# Altium schematic symbol library RcMPPT-SCC.SCHLIB: 58 symbols
Pins are listed as number, name and electrical type; pins without a type are passive.

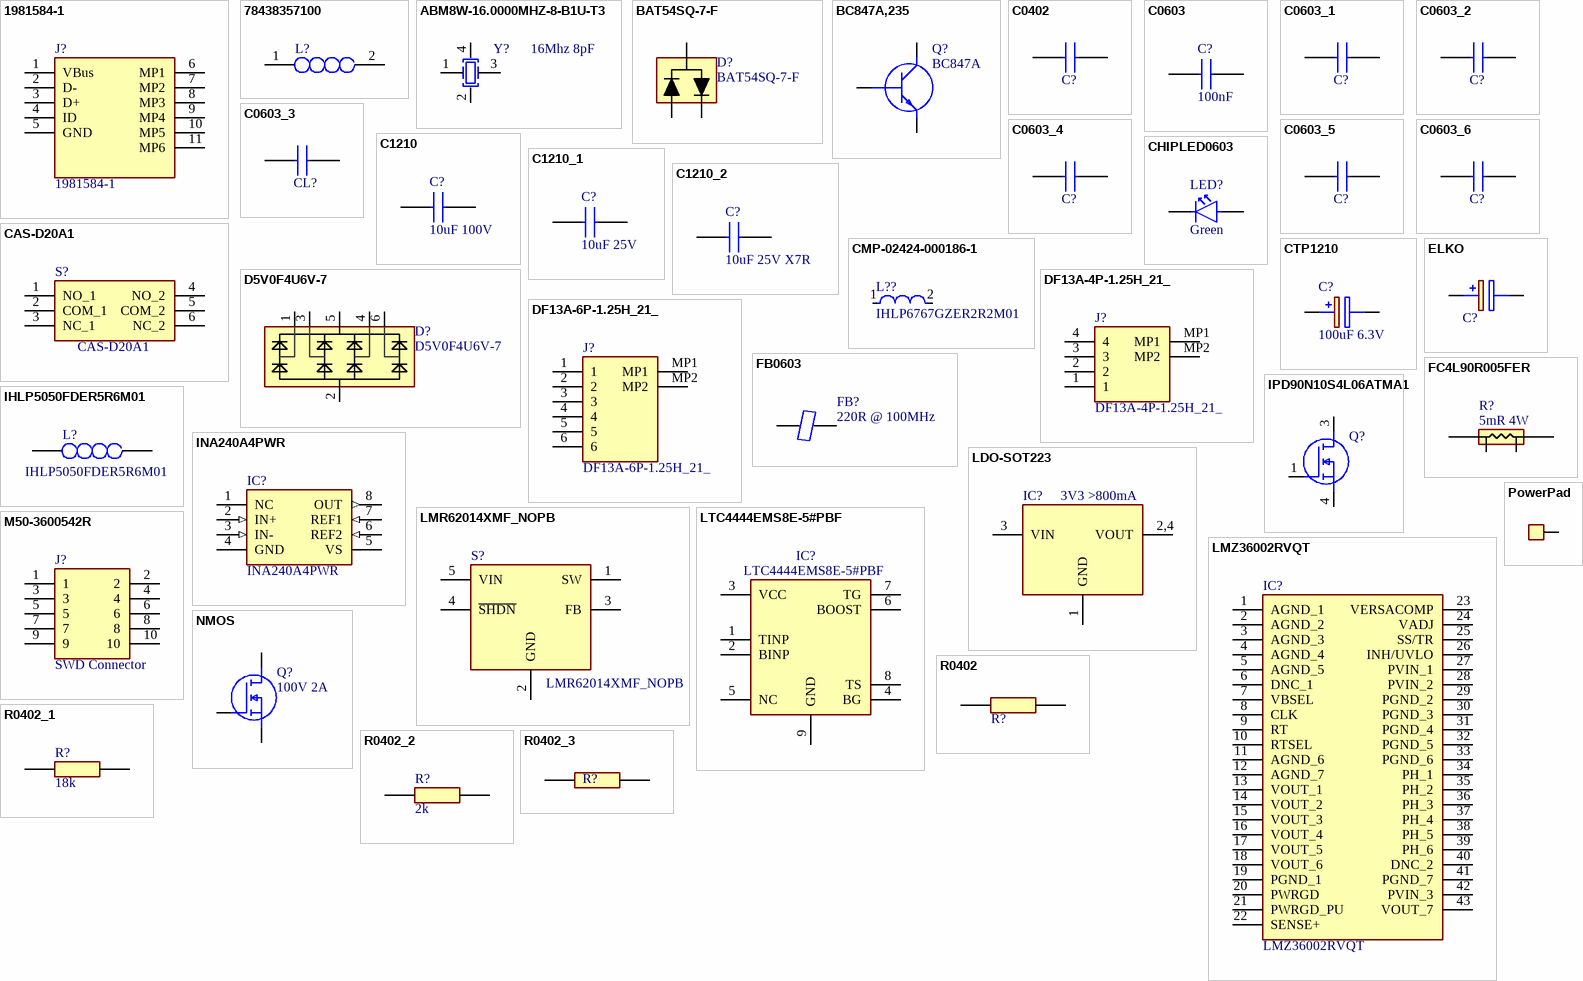
[diagram p0: symbols 1981584-1 to R0402_3]

## 1981584-1
designator J?
Connector; Manufacturer_Name: TE Connectivity; Datasheet Link: http://www.te.com/commerce/DocumentDelivery/DDEController?Action=showdoc&DocId=Customer+Drawing%7F1981584%7FD2%7Fpdf%7FEnglish%7FENG_CD_1981584_D2.pdf%7F1981584-1; Height: 3mm; Manufacturer_Part_Number: 1981584-1; Arrow Part Number: 1981584-1; Arrow Price/Stock: https://www.arrow.com/en/products/1981584-1/te-connectivity; Mouser Part Number: 571-1981584-1; Mouser Price/Stock: https://www.mouser.co.uk/ProductDetail/TE-Connectivity/1981584-1?qs=ozkTL%2FUej0TLYxjQLPnd2Q%3D%3D
footprint 19815841
pins: 1 VBus, 2 D-, 3 D+, 4 ID, 5 GND, 6 MP1, 7 MP2, 8 MP3, 9 MP4, 10 MP5, 11 MP6

## 78438357100
designator L?  (value not drawn)
Inductor; Manufacturer_Name: Wurth Elektronik; Datasheet Link: https://katalog.we-online.de/pbs/datasheet/78438357100.pdf; Height: 3.1mm; Manufacturer_Part_Number: 78438357100; Mouser Part Number: 710-78438357100; Mouser Price/Stock: https://www.mouser.co.uk/ProductDetail/Wurth-Elektronik/78438357100?qs=f9yNj16SXrI9saR5LXmRyQ%3D%3D
footprint INDPM4141X310N
pins: 1, 2

## ABM8W-16.0000MHZ-8-B1U-T3
designator Y?, comment 16Mhz 8pF
Crystal or Oscillator; Manufacturer_Name: ABRACON; Manufacturer_Part_Number: ABM8W-16.0000MHZ-8-B1U-T3; Datasheet Link: https://abracon.com/Resonators/ABM8W.pdf; Height: 0.75mm; Mouser Part Number: 815-8W16-8B1UT; Mouser Price/Stock: https://www.mouser.co.uk/ProductDetail/ABRACON/ABM8W-160000MHZ-8-B1U-T3?qs=5aG0NVq1C4zuwTHNFUIcqw%3D%3D; Arrow Part Number: ABM8W-16.0000MHZ-8-B1U-T3; Arrow Price/Stock: https://www.arrow.com/en/products/abm8w-16.0000mhz-8-b1u-t3/abracon
footprint ABM8W160000MHZ8B1UT3
pins: 1 OSC1, 2 OSC2, 3, 4

## BAT54SQ-7-F
designator D?
Schottky Diode; Manufacturer_Name: Diodes Inc.; Datasheet Link: https://www.arrow.com/en/products/bat54sq-7-f/diodes-incorporated; Height: 1.1mm; Manufacturer_Part_Number: BAT54SQ-7-F; Mouser Part Number: 621-BAT54SQ-7-F; Mouser Price/Stock: https://www.mouser.co.uk/ProductDetail/Diodes-Incorporated/BAT54SQ-7-F/?qs=vdQOMtKMWaAKaYcjx11stw%3D%3D; Arrow Part Number: BAT54SQ-7-F; Arrow Price/Stock: https://www.arrow.com/en/products/bat54sq-7-f/diodes-incorporated
footprint SOT96P240X110-3N
pins: 1 A, 2 K, 3 A/K

## BC847A,235
designator Q?, comment BC847A
Transistor BJT NPN; Manufacturer_Name: Nexperia; Manufacturer_Part_Number: BC847A,235; Datasheet Link: http://assets.nexperia.com/documents/data-sheet/BC847_SER.pdf; Height: 1.1mm; Mouser Part Number: 771-BC847A235; Mouser Price/Stock: https://www.mouser.co.uk/ProductDetail/Nexperia/BC847A235?qs=me8TqzrmIYWeD%252BqPzufrRA%3D%3D; Arrow Part Number: BC847A,235; Arrow Price/Stock: https://www.arrow.com/en/products/bc847a235/nexperia
footprint SOT95P230X110-3N
pins: 1 B, 2 E, 3 C

## C0402
designator C?, comment 100nF 6.3V  (value not drawn)
Capacitor
footprint CAPC1005X55N
pins: 1, 2

## C0603
designator C?, comment 100nF
Capacitor; Height: 0.97
footprint CAPC1608X97N
pins: 1, 2

## C0603_1
designator C?, comment 10nF  (value not drawn)
Capacitor; Height: 0.97
footprint CAPC1608X97N
pins: 1, 2

## C0603_2
designator C?, comment 100nF 3V3  (value not drawn)
Capacitor; Height: 0.97
footprint CAPC1608X97N
pins: 1, 2

## C0603_3
designator CL?, comment 4nF  (value not drawn)
Capacitor; Height: 0.97
footprint CAPC1608X97N
pins: 1, 2

## C0603_4
designator C?, comment 10uF 20V  (value not drawn)
Capacitor; Height: 0.97
footprint CAPC1608X97N
pins: 1, 2

## C0603_5
designator C?, comment 1nF  (value not drawn)
Capacitor; Height: 0.97
footprint CAPC1608X97N
pins: 1, 2

## C0603_6
designator C?, comment 270pF NP0  (value not drawn)
Capacitor; Height: 0.97
footprint CAPC1608X97N
pins: 1, 2

## C1210
designator C?, comment 10uF 100V
Capacitor; Manufacturer_Name: Vishay; Manufacturer_Part_Number: VJ0603Y104JXJAC; Datasheet Link: http://www.vishay.com/docs/45226/vj31xrohsautomlcc.pdf; Height: 0.97mm; Mouser Part Number: 77-VJ0603Y104JXJAC; Mouser Price/Stock: https://www.mouser.com/Search/Refine.aspx?Keyword=77-VJ0603Y104JXJAC
footprint CAPC3225X270N
pins: 1, 2

## C1210_1
designator C?, comment 10uF 25V
Capacitor; Manufacturer_Name: Vishay; Manufacturer_Part_Number: VJ0603Y104JXJAC; Datasheet Link: http://www.vishay.com/docs/45226/vj31xrohsautomlcc.pdf; Height: 0.97mm; Mouser Part Number: 77-VJ0603Y104JXJAC; Mouser Price/Stock: https://www.mouser.com/Search/Refine.aspx?Keyword=77-VJ0603Y104JXJAC
footprint CAPC3225X270N
pins: 1, 2

## C1210_2
designator C?, comment 10uF 25V X7R
Capacitor; Manufacturer_Name: Vishay; Manufacturer_Part_Number: VJ0603Y104JXJAC; Datasheet Link: http://www.vishay.com/docs/45226/vj31xrohsautomlcc.pdf; Height: 0.97mm; Mouser Part Number: 77-VJ0603Y104JXJAC; Mouser Price/Stock: https://www.mouser.com/Search/Refine.aspx?Keyword=77-VJ0603Y104JXJAC
footprint CAPC3225X270N
pins: 1, 2

## CAS-D20A1
designator S?
Switch; Manufacturer_Name: Copal Electronics; Datasheet Link: https://www.nidec-copal-electronics.com/e/catalog/switch/cas.pdf; Height: 2.5mm; Manufacturer_Part_Number: CAS-D20A1
footprint CASD20A1
pins: 1 NO_1, 2 COM_1, 3 NC_1, 4 NO_2, 5 COM_2, 6 NC_2

## CHIPLED0603
designator LED?, comment Green
LED; Mouser Price/Stock: https://www.mouser.at/c/optoelectronics/led-lighting/led-emitters/standard-leds-smd/?series=CHIPLED%200603&instock=y
footprint CHIPLED_0603
pins: 1 K, 2 A

## CMP-02424-000186-1
designator L??, comment IHLP6767GZER2R2M01
Commercial Inductors, High Saturation Series 2.2uH 35A 2.53mΩ 20%; Manufacturer: Vishay Dale; Max DC Current: 62A; Shielding: Shielded; Self Resonant Frequency: 2MHz; DC Resistance (DCR): 2.53mR; Core Material: Metal; Test Frequency: 100kHz; Tolerance: 20%; Termination: SMD/SMT; RMS Current (Irms): 35A; Depth: 17.15mm; Package Quantity: 200; Mount: Surface Mount; Case/Package: 6767; Saturation Current: 62A; Radiation Hardening: No; Height - Seated (Max): 0.276inch; Lead Free: Lead Free; Max Operating Temperature: 125°C; Inductance Tolerance: 20%; Packaging: Tape and Reel; Number of Pins: 6767; Current Rating: 35A; Military Standard: Not; Min Operating Temperature: -55°C; Inductance: 2.2uH; Width: 0.675inch; Height: 7mm; Length: 17.15mm; Manufacturer Part Number: IHLP6767GZER2R2M01
footprint FP-IHLP-6767GZ-FP_3_825x1-MFG
pins: 1, 2

## CTP1210
designator C?, comment 100uF 6.3V
Capacitor Polarised
footprint POSCAP_B1_B1S_B1G_B15G_B2_B2S
pins: 1 +, 2 -

## D5V0F4U6V-7
designator D?
TVS Diode Array; Manufacturer_Name: Diodes Inc.; Datasheet Link: https://www.diodes.com/assets/Datasheets/D5V0F4U6V.pdf; Height: 0.6mm; Manufacturer_Part_Number: D5V0F4U6V-7; Mouser Part Number: 621-D5V0F4U6V-7; Mouser Price/Stock: https://www.mouser.com/Search/Refine.aspx?Keyword=621-D5V0F4U6V-7; Arrow Part Number: D5V0F4U6V-7; Arrow Price/Stock: https://www.arrow.com/en/products/d5v0f4u6v-7/diodes-incorporated
footprint SOTFL50P162X60-6N
pins: 1 CH1, 2 GND, 3 CH2, 4 CH3, 5 VDD, 6 CH4

## DF13A-4P-1.25H_21_
designator J?
Connector; Manufacturer_Name: Hirose; Manufacturer_Part_Number: DF13A-4P-1.25H(21); Datasheet Link: https://componentsearchengine.com/Datasheets/1/DF13A-4P-1.25H(21).pdf; Height: 3.6mm; Mouser Part Number: 798-DF13A4P125H21; Mouser Price/Stock: https://www.mouser.co.uk/ProductDetail/Hirose-Connector/DF13A-4P-125H21?qs=XQjbzJWzFPXWzMShI70F0w%3D%3D
footprint DF13A4P125H21
pins: 1, 2, 3, 4, MP1, MP2

## DF13A-6P-1.25H_21_
designator J?
Connector; Manufacturer_Name: Hirose; Manufacturer_Part_Number: DF13A-6P-1.25H(21); Datasheet Link: https://www.hirose.com/product/download/?distributor=digikey&type=2d&lang=en&num=DF13A-6P-1.25H(21); Height: 3.75mm; Mouser Part Number: 798-DF13A6P125H21; Mouser Price/Stock: https://www.mouser.co.uk/ProductDetail/Hirose-Connector/DF13A-6P-125H21?qs=XQjbzJWzFPXnreVi%252BPl0Lg%3D%3D; Arrow Part Number: DF13A-6P-1.25H(21); Arrow Price/Stock: https://www.arrow.com/en/products/df13a-6p-1.25h-21/hirose-electric
footprint DF13A6P125H21
pins: 1, 2, 3, 4, 5, 6, MP1, MP2

## ELKO
designator C?, comment 47uF 100VDC 10mm  (value not drawn)
Capacitor Polarised
footprint CAPAE1710X1750N
footprint CAPAE1030X1050N
pins: 1 +, 2 -

## FB0603
designator FB?, comment 220R @ 100MHz
Ferrite Bead; Manufacturer_Name: TDK; Manufacturer_Part_Number: MPZ1608S221ATA00; Datasheet Link: https://product.tdk.com/system/files/dam/doc/product/emc/emc/beads/catalog/beads_commercial_power_mpz1608_en.pdf; Height: 0.75mm; Mouser Part Number: 810-MPZ1608S221ATA00; Mouser Price/Stock: https://www.mouser.co.uk/ProductDetail/TDK/MPZ1608S221ATA00?qs=pLY5GE0xrmLZeKkazChaNg%3D%3D; Arrow Part Number: MPZ1608S221ATA00; Arrow Price/Stock: https://www.arrow.com/en/products/mpz1608s221ata00/tdk?region=nac
footprint FB0603
pins: 1, 2

## FC4L90R005FER
designator R?, comment 5mR 4W
Shunt; Manufacturer_Name: Ohmite; Manufacturer_Part_Number: FC4L90R005FER; Datasheet Link: https://componentsearchengine.com/Datasheets/2/FC4L90R005FER.pdf; Height: 0.8mm; Mouser Part Number: 588-FC4L90R005FER; Mouser Price/Stock: https://www.mouser.co.uk/ProductDetail/Ohmite/FC4L90R005FER?qs=lc2O%252BfHJPVbbUOwenJZbzA%3D%3D
footprint FC4L90R005FER
pins: 1, 2, 3, 4

## IHLP5050FDER5R6M01
designator L?
Inductor; Manufacturer_Name: Vishay; Datasheet Link: https://datasheet.datasheetarchive.com/originals/dk/DKDS-37/730336.pdf; Height: 6.5mm; Manufacturer_Part_Number: IHLP5050FDER5R6M01; Mouser Part Number: 70-IHLP5050FDER5R6; Mouser Price/Stock: https://www.mouser.co.uk/ProductDetail/Vishay-Dale/IHLP5050FDER5R6M01?qs=DQ1bOpn7xPDvqDl65iF1FA%3D%3D; Arrow Part Number: IHLP5050FDER5R6M01; Arrow Price/Stock: https://www.arrow.com/en/products/ihlp5050fder5r6m01/vishay
footprint INDPM132129X650N
pins: 1, 2

## INA240A4PWR
designator IC?
Integrated Circuit; Manufacturer_Name: Texas Instruments; Datasheet Link: http://www.ti.com/lit/ds/symlink/ina240.pdf; Height: 1.2mm; Manufacturer_Part_Number: INA240A4PWR; Mouser Part Number: 595-INA240A4PWR; Mouser Price/Stock: https://www.mouser.co.uk/ProductDetail/Texas-Instruments/INA240A4PWR?qs=aVyJF2WnouQ31PAZ9p0r8w%3D%3D; Arrow Part Number: INA240A4PWR; Arrow Price/Stock: https://www.arrow.com/en/products/ina240a4pwr/texas-instruments?region=nac
footprint SOP65P640X120-8N
pins: 1 NC, 2 IN+ (in), 3 IN- (in), 4 GND (power), 5 VS (power), 6 REF2 (in), 7 REF1 (in), 8 OUT (out)

## IPD90N10S4L06ATMA1
designator Q?  (value not drawn)
MOSFET (N-Channel); Manufacturer_Name: Infineon; Datasheet Link: https://www.infineon.com/dgdl/Infineon-IPD90N10S4L_06-DS-v01_00-en.pdf?fileId=db3a3043372d5cc80137500063630512; Height: 2mm; Manufacturer_Part_Number: IPD90N10S4L06ATMA1; Arrow Part Number: IPD90N10S4L06ATMA1; Arrow Price/Stock: https://www.arrow.com/en/products/ipd90n10s4l06atma1/infineon-technologies-ag; Mouser Part Number: 726-IPD90N10S4L06ATM; Mouser Price/Stock: https://www.mouser.co.uk/ProductDetail/Infineon-Technologies/IPD90N10S4L06ATMA1?qs=LxJ0xX%2FWJR62lwU%2FrihEDA%3D%3D
footprint IPD90N10S4L06ATMA1
pins: 1 G, 3 D, 4 S

## LDO-SOT223
designator IC?, comment 3V3 >800mA
LDO
footprint SOT230P700X180-4N
pins: 1 GND, 2,4 VOUT, 3 VIN

## LMR62014XMF_NOPB
designator S?
Switch; Manufacturer_Name: Texas Instruments; Manufacturer_Part_Number: LMR62014XMF/NOPB; Datasheet Link: http://www.ti.com/lit/gpn/lmr62014; Height: 1.45mm; Mouser Part Number: 926-LMR62014XMF/NOPB; Mouser Price/Stock: https://www.mouser.co.uk/ProductDetail/Texas-Instruments/LMR62014XMF-NOPB?qs=cN01o9PeIQtA177Vn0GXdQ%3D%3D; Arrow Part Number: LMR62014XMF/NOPB; Arrow Price/Stock: https://www.arrow.com/en/products/lmr62014xmfnopb/texas-instruments
footprint SOT95P280X145-5N
pins: 1 SW, 2 GND, 3 FB, 4 ~{SHDN}, 5 VIN

## LMZ36002RVQT
designator IC?
Integrated Circuit; Manufacturer_Name: Texas Instruments; Datasheet Link: http://www.ti.com/lit/gpn/lmz36002; Height: 2.13mm; Manufacturer_Part_Number: LMZ36002RVQT; Arrow Part Number: LMZ36002RVQT; Arrow Price/Stock: https://www.arrow.com/en/products/lmz36002rvqt/texas-instruments; Mouser Part Number: 595-LMZ36002RVQT; Mouser Price/Stock: https://www.mouser.co.uk/ProductDetail/Texas-Instruments/LMZ36002RVQT?qs=kFLL9AfgRSBjXTxBMSjGOw%3D%3D
footprint LMZ36002RVQR
pins: 1 AGND_1, 2 AGND_2, 3 AGND_3, 4 AGND_4, 5 AGND_5, 6 DNC_1, 7 VBSEL, 8 CLK, 9 RT, 10 RTSEL, 11 AGND_6, 12 AGND_7, 13 VOUT_1, 14 VOUT_2, 15 VOUT_3, 16 VOUT_4, 17 VOUT_5, 18 VOUT_6, 19 PGND_1, 20 PWRGD, 21 PWRGD_PU, 22 SENSE+, 23 VERSACOMP, 24 VADJ, 25 SS/TR, 26 INH/UVLO, 27 PVIN_1, 28 PVIN_2, 29 PGND_2, 30 PGND_3, 31 PGND_4, 32 PGND_5, 33 PGND_6, 34 PH_1, 35 PH_2, 36 PH_3, 37 PH_4, 38 PH_5, 39 PH_6, 40 DNC_2, 41 PGND_7, 42 PVIN_3, 43 VOUT_7

## LTC4444EMS8E-5#PBF
designator IC?
Integrated Circuit; Manufacturer_Name: Linear Technology; Datasheet Link: http://www.linear.com/docs/26366; Height: 1.1mm; Manufacturer_Part_Number: LTC4444EMS8E-5#PBF; Arrow Part Number: LTC4444EMS8E-5#PBF; Arrow Price/Stock: https://www.arrow.com/en/products/ltc4444ems8e-5pbf/linear-technology; Mouser Part Number: 584-C4444EMS8E-5PBF; Mouser Price/Stock: https://www.mouser.com/Search/Refine.aspx?Keyword=584-C4444EMS8E-5PBF
footprint SOP65P490X110-9N
pins: 1 TINP, 2 BINP, 3 VCC, 4 BG, 5 NC, 6 BOOST, 7 TG, 8 TS, 9 GND

## M50-3600542R
designator J?, comment SWD Connector
Connector; Manufacturer_Name: Harwin; Manufacturer_Part_Number: M50-3600542R; Datasheet Link: https://cdn.harwin.com/pdfs/M50-360R.pdf; Mouser Part Number: 855-M50-3600542R; Mouser Price/Stock: https://www.mouser.co.uk/ProductDetail/Harwin/M50-3600542R?qs=DVxm2sPGGrrPu%2FxuhpV3yw%3D%3D
footprint HUSSP10W40P127_2X5_635X340X420P
pins: 1, 2, 3, 4, 5, 6, 7, 8, 9, 10

## NMOS
designator Q?, comment 100V 2A
MOSFET (N-Channel)
footprint SI2305TP
footprint SOT96P240X110-3N
pins: 1 G, 2 S, 3 D

## PowerPad
designator P?  (value not drawn)
footprint POWER_PAD
pins: 1

## R0402
designator R?, comment 22R  (value not drawn)
Resistor; Height: 0.4mm
footprint RESC1005X40N
pins: 1, 2

## R0402_1
designator R?, comment 18k
Resistor; Height: 0.4mm
footprint RESC1005X40N
pins: 1, 2

## R0402_2
designator R?, comment 2k
Resistor; Height: 0.4mm
footprint RESC1005X40N
pins: 1, 2

## R0402_3
designator R?, comment 100R  (value not drawn)
Resistor; Height: 0.4mm
footprint RESC1005X40N
pins: 1, 2

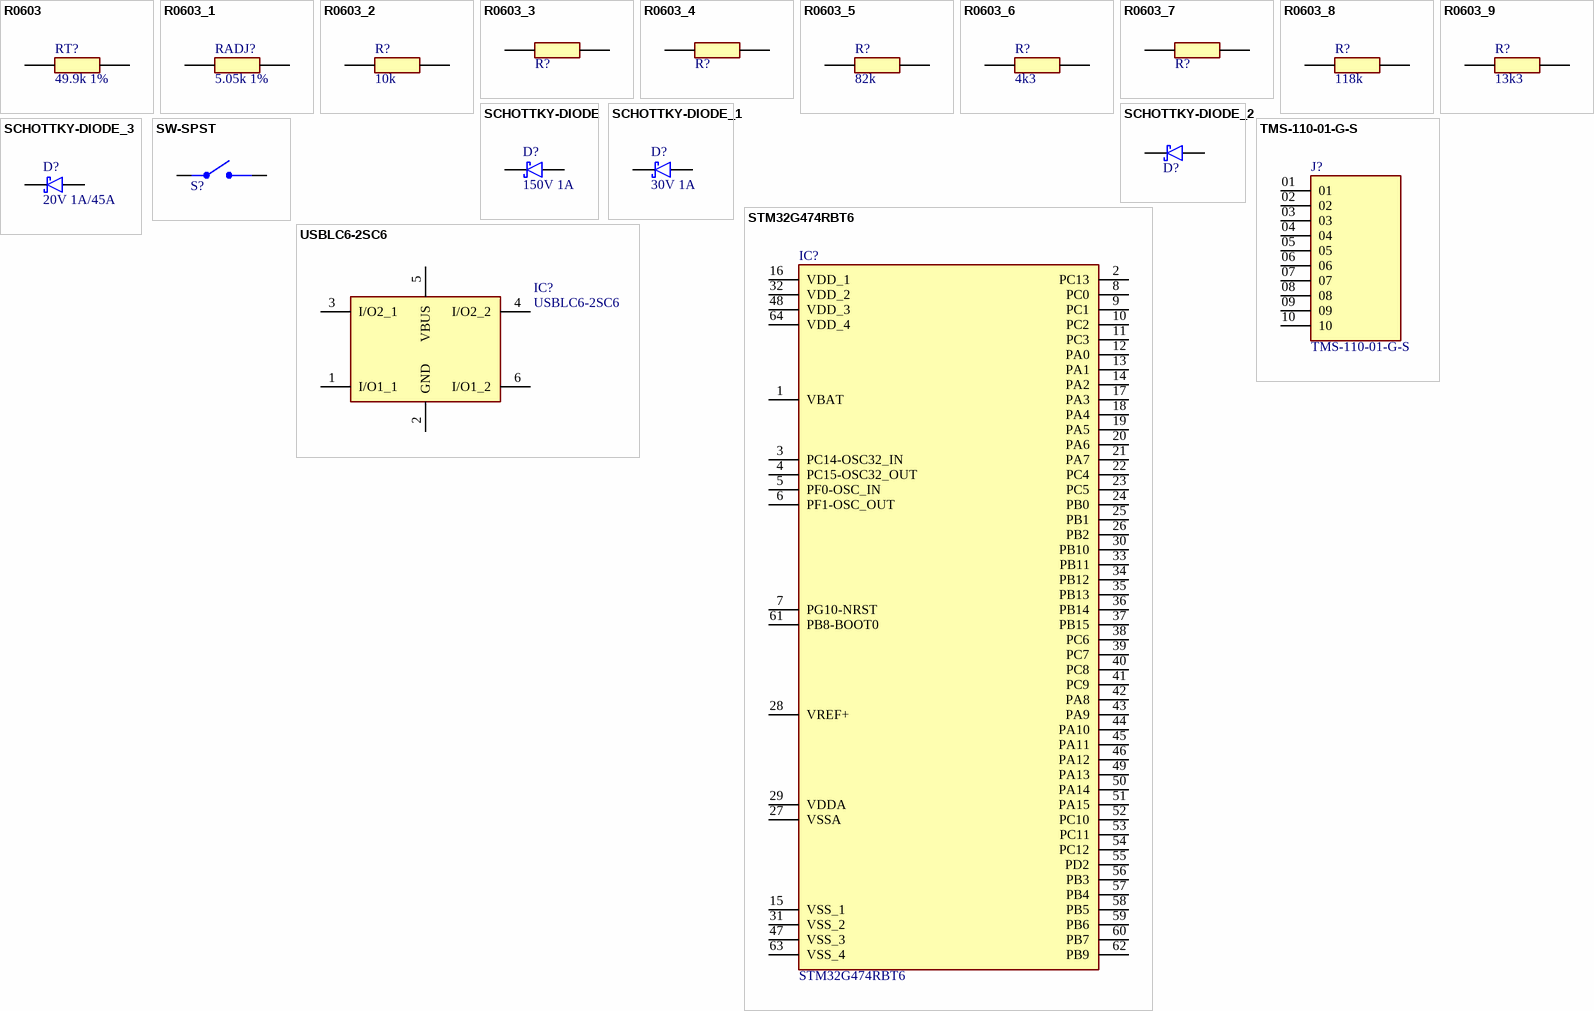
[diagram p1: symbols R0603 to USBLC6-2SC6]

## R0603
designator RT?, comment 49.9k 1%
Resistor; Manufacturer_Name: Panasonic; Manufacturer_Part_Number: ERJ-PA3J104V; Datasheet Link: https://industrial.panasonic.com/cdbs/www-data/pdf/RDO0000/AOA0000C331.pdf; Height: 0.55mm; Arrow Part Number: ERJ-PA3J104V; Arrow Price/Stock: https://www.arrow.com/en/products/erj-pa3j104v/panasonic; Mouser Part Number: 667-ERJ-PA3J104V; Mouser Price/Stock: https://www.mouser.co.uk/ProductDetail/Panasonic/ERJ-PA3J104V/?qs=BzJM0faLVqV4tD3ZRAThew%3D%3D
footprint RESC1608X50N
pins: 1, 2

## R0603_1
designator RADJ?, comment 5.05k 1%
Resistor; Manufacturer_Name: Panasonic; Manufacturer_Part_Number: ERJ-PA3J104V; Datasheet Link: https://industrial.panasonic.com/cdbs/www-data/pdf/RDO0000/AOA0000C331.pdf; Height: 0.55mm; Arrow Part Number: ERJ-PA3J104V; Arrow Price/Stock: https://www.arrow.com/en/products/erj-pa3j104v/panasonic; Mouser Part Number: 667-ERJ-PA3J104V; Mouser Price/Stock: https://www.mouser.co.uk/ProductDetail/Panasonic/ERJ-PA3J104V/?qs=BzJM0faLVqV4tD3ZRAThew%3D%3D
footprint RESC1608X50N
pins: 1, 2

## R0603_2
designator R?, comment 10k
Resistor; Manufacturer_Name: Panasonic; Manufacturer_Part_Number: ERJ-PA3J104V; Datasheet Link: https://industrial.panasonic.com/cdbs/www-data/pdf/RDO0000/AOA0000C331.pdf; Height: 0.55mm; Arrow Part Number: ERJ-PA3J104V; Arrow Price/Stock: https://www.arrow.com/en/products/erj-pa3j104v/panasonic; Mouser Part Number: 667-ERJ-PA3J104V; Mouser Price/Stock: https://www.mouser.co.uk/ProductDetail/Panasonic/ERJ-PA3J104V/?qs=BzJM0faLVqV4tD3ZRAThew%3D%3D
footprint RESC1608X50N
pins: 1, 2

## R0603_3
designator R?, comment 1k  (value not drawn)
Resistor; Manufacturer_Name: Panasonic; Manufacturer_Part_Number: ERJ-PA3J104V; Datasheet Link: https://industrial.panasonic.com/cdbs/www-data/pdf/RDO0000/AOA0000C331.pdf; Height: 0.55mm; Mouser Part Number: 667-ERJ-PA3J104V; Mouser Price/Stock: https://www.mouser.co.uk/ProductDetail/Panasonic/ERJ-PA3J104V/?qs=BzJM0faLVqV4tD3ZRAThew%3D%3D; Arrow Part Number: ERJ-PA3J104V; Arrow Price/Stock: https://www.arrow.com/en/products/erj-pa3j104v/panasonic
footprint RESC1608X50N
pins: 1, 2

## R0603_4
designator R?, comment 2k  (value not drawn)
Resistor; Manufacturer_Name: Panasonic; Manufacturer_Part_Number: ERJ-PA3J104V; Datasheet Link: https://industrial.panasonic.com/cdbs/www-data/pdf/RDO0000/AOA0000C331.pdf; Height: 0.55mm; Mouser Part Number: 667-ERJ-PA3J104V; Mouser Price/Stock: https://www.mouser.co.uk/ProductDetail/Panasonic/ERJ-PA3J104V/?qs=BzJM0faLVqV4tD3ZRAThew%3D%3D; Arrow Part Number: ERJ-PA3J104V; Arrow Price/Stock: https://www.arrow.com/en/products/erj-pa3j104v/panasonic
footprint RESC1608X50N
pins: 1, 2

## R0603_5
designator R?, comment 82k
Resistor; Manufacturer_Name: Panasonic; Manufacturer_Part_Number: ERJ-PA3J104V; Datasheet Link: https://industrial.panasonic.com/cdbs/www-data/pdf/RDO0000/AOA0000C331.pdf; Height: 0.55mm; Mouser Part Number: 667-ERJ-PA3J104V; Mouser Price/Stock: https://www.mouser.co.uk/ProductDetail/Panasonic/ERJ-PA3J104V/?qs=BzJM0faLVqV4tD3ZRAThew%3D%3D; Arrow Part Number: ERJ-PA3J104V; Arrow Price/Stock: https://www.arrow.com/en/products/erj-pa3j104v/panasonic
footprint RESC1608X50N
pins: 1, 2

## R0603_6
designator R?, comment 4k3
Resistor; Manufacturer_Name: Panasonic; Manufacturer_Part_Number: ERJ-PA3J104V; Datasheet Link: https://industrial.panasonic.com/cdbs/www-data/pdf/RDO0000/AOA0000C331.pdf; Height: 0.55mm; Mouser Part Number: 667-ERJ-PA3J104V; Mouser Price/Stock: https://www.mouser.co.uk/ProductDetail/Panasonic/ERJ-PA3J104V/?qs=BzJM0faLVqV4tD3ZRAThew%3D%3D; Arrow Part Number: ERJ-PA3J104V; Arrow Price/Stock: https://www.arrow.com/en/products/erj-pa3j104v/panasonic
footprint RESC1608X50N
pins: 1, 2

## R0603_7
designator R?, comment 1M  (value not drawn)
Resistor; Manufacturer_Name: Panasonic; Manufacturer_Part_Number: ERJ-PA3J104V; Datasheet Link: https://industrial.panasonic.com/cdbs/www-data/pdf/RDO0000/AOA0000C331.pdf; Height: 0.55mm; Mouser Part Number: 667-ERJ-PA3J104V; Mouser Price/Stock: https://www.mouser.co.uk/ProductDetail/Panasonic/ERJ-PA3J104V/?qs=BzJM0faLVqV4tD3ZRAThew%3D%3D; Arrow Part Number: ERJ-PA3J104V; Arrow Price/Stock: https://www.arrow.com/en/products/erj-pa3j104v/panasonic
footprint RESC1608X50N
pins: 1, 2

## R0603_8
designator R?, comment 118k
Resistor; Manufacturer_Name: Panasonic; Manufacturer_Part_Number: ERJ-PA3J104V; Datasheet Link: https://industrial.panasonic.com/cdbs/www-data/pdf/RDO0000/AOA0000C331.pdf; Height: 0.55mm; Mouser Part Number: 667-ERJ-PA3J104V; Mouser Price/Stock: https://www.mouser.co.uk/ProductDetail/Panasonic/ERJ-PA3J104V/?qs=BzJM0faLVqV4tD3ZRAThew%3D%3D; Arrow Part Number: ERJ-PA3J104V; Arrow Price/Stock: https://www.arrow.com/en/products/erj-pa3j104v/panasonic
footprint RESC1608X50N
pins: 1, 2

## R0603_9
designator R?, comment 13k3
Resistor; Manufacturer_Name: Panasonic; Manufacturer_Part_Number: ERJ-PA3J104V; Datasheet Link: https://industrial.panasonic.com/cdbs/www-data/pdf/RDO0000/AOA0000C331.pdf; Height: 0.55mm; Mouser Part Number: 667-ERJ-PA3J104V; Mouser Price/Stock: https://www.mouser.co.uk/ProductDetail/Panasonic/ERJ-PA3J104V/?qs=BzJM0faLVqV4tD3ZRAThew%3D%3D; Arrow Part Number: ERJ-PA3J104V; Arrow Price/Stock: https://www.arrow.com/en/products/erj-pa3j104v/panasonic
footprint RESC1608X50N
pins: 1, 2

## SCHOTTKY-DIODE
designator D?, comment 150V 1A
Schottky Diode
footprint SOD2513X110N
footprint SODFL3617X108N
pins: 1 K, 2 A

## SCHOTTKY-DIODE_1
designator D?, comment 30V 1A
Schottky Diode
footprint SOD2513X110N
footprint SODFL3617X108N
pins: 1 K, 2 A

## SCHOTTKY-DIODE_2
designator D?, comment 20V 1A  (value not drawn)
Schottky Diode
footprint SOD2513X110N
footprint SODFL3617X108N
pins: 1 K, 2 A

## SCHOTTKY-DIODE_3
designator D?, comment 20V 1A/45A
Schottky Diode
footprint SOD2513X110N
footprint SODFL3617X108N
pins: 1 K, 2 A

## STM32G474RBT6
designator IC?
Integrated Circuit; Manufacturer_Name: STMicroelectronics; Datasheet Link: https://www.mouser.com/datasheet/2/389/stm32g474cb-1600828.pdf; Height: 1.6mm; Manufacturer_Part_Number: STM32G474RBT6; Mouser Part Number: 511-STM32G474RBT6; Mouser Price/Stock: https://www.mouser.co.uk/ProductDetail/STMicroelectronics/STM32G474RBT6?qs=uwxL4vQweFP0uAZUZXLBhQ%3D%3D
footprint QFP50P1200X1200X160-64N
pins: 1 VBAT, 2 PC13, 3 PC14-OSC32_IN, 4 PC15-OSC32_OUT, 5 PF0-OSC_IN, 6 PF1-OSC_OUT, 7 PG10-NRST, 8 PC0, 9 PC1, 10 PC2, 11 PC3, 12 PA0, 13 PA1, 14 PA2, 15 VSS_1, 16 VDD_1, 17 PA3, 18 PA4, 19 PA5, 20 PA6, 21 PA7, 22 PC4, 23 PC5, 24 PB0, 25 PB1, 26 PB2, 27 VSSA, 28 VREF+, 29 VDDA, 30 PB10, 31 VSS_2, 32 VDD_2, 33 PB11, 34 PB12, 35 PB13, 36 PB14, 37 PB15, 38 PC6, 39 PC7, 40 PC8, 41 PC9, 42 PA8, 43 PA9, 44 PA10, 45 PA11, 46 PA12, 47 VSS_3, 48 VDD_3, 49 PA13, 50 PA14, 51 PA15, 52 PC10, 53 PC11, 54 PC12, 55 PD2, 56 PB3, 57 PB4, 58 PB5, 59 PB6, 60 PB7, 61 PB8-BOOT0, 62 PB9, 63 VSS_4, 64 VDD_4

## SW-SPST
designator S?, comment 434153017835  (value not drawn)
Switch
footprint 434153017835
pins: 1,3 NO, 2,4 COM

## TMS-110-01-G-S
designator J?
MF: {'manufacturer': u'Samtec'}; Package: None; Availability: Unavailable; Value: *; MP: TMS-110-01-G-S; Price: None
footprint SAMTEC_TMS-110-01-G-S
pins: 01, 02, 03, 04, 05, 06, 07, 08, 09, 10

## USBLC6-2SC6
designator IC?
Integrated Circuit; Manufacturer_Name: STMicroelectronics; Datasheet Link: http://www.st.com/st-web-ui/static/active/en/resource/technical/document/datasheet/CD00050750.pdf; Height: 1.45mm; Manufacturer_Part_Number: USBLC6-2SC6; Arrow Part Number: USBLC6-2SC6; Arrow Price/Stock: https://www.arrow.com/en/products/usblc6-2sc6/stmicroelectronics; Mouser Part Number: 511-USBLC6-2SC6; Mouser Price/Stock: https://www.mouser.co.uk/ProductDetail/STMicroelectronics/USBLC6-2SC6?qs=po45yt2pPpu%2FhNIlwQdTlg%3D%3D
footprint SOT95P280X145-6N
pins: 1 I/O1_1, 2 GND, 3 I/O2_1, 4 I/O2_2, 5 VBUS, 6 I/O1_2